# Altium schematic symbol library DIODO TVS.Schlib: 2 symbols
Pins are listed as number, name and electrical type; pins without a type are passive.

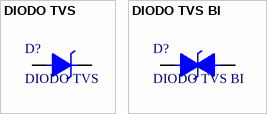
[diagram p0: symbols DIODO TVS to DIODO TVS BI]

## DIODO TVS
designator D?
pins: 1, 2

## DIODO TVS BI
designator D?
pins: 1, 2